# EAGLE library part TRF7970A (library MDB_HOME)
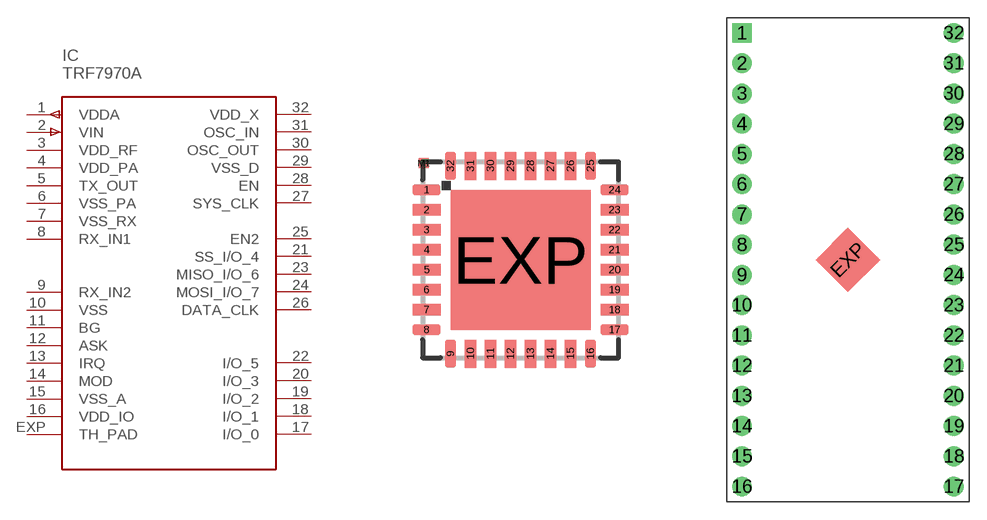
[diagram p50: symbol with the pads of HVQFN32; footprints HVQFN32, ADAPTER_QFN_QFP32]

Designator prefix IC

## TRF7970A_IC  [HVQFN32]
1  VDDA  out
2  VIN  sup
3  VDD_RF  out
4  VDD_PA  in
5  TX_OUT  out
6  VSS_PA  sup
7  VSS_RX  sup
8  RX_IN1  in
9  RX_IN2  in
10  VSS
11  BG  out
12  ASK
13  IRQ  out
14  MOD
15  VSS_A  sup
16  VDD_IO  in
17  I/O_0
18  I/O_1
19  I/O_2
20  I/O_3
21  SS_I/O_4
22  I/O_5
23  MISO_I/O_6
24  MOSI_I/O_7
25  EN2  in
26  DATA_CLK  in
27  SYS_CLK  out
28  EN  in
29  VSS_D  sup
30  OSC_OUT  out
31  OSC_IN
32  VDD_X  out
EXP  TH_PAD  sup

## TRF7970A__SQ1  [ADAPTER_QFN_QFP32]
Pads as for HVQFN32

## TRF7970A  [ADAPTER_QFN/P32_SQUARE]
Pads as for HVQFN32

## Footprint HVQFN32 (pad centres in mm)
HVQFN32 (SOT617-3) 5 x 5 x .85 mm, Pitch 0.5mm Source: http://www.semiconductors.philips.com/acrobat_download/datasheets/TDA9885_TDA9886_2.pdf
smd 0.7 x 0.28: 1 -2.35,1.75; 2 -2.35,1.25; 3 -2.35,0.75; 4 -2.35,0.25; 5 -2.35,-0.25; 6 -2.35,-0.75; 7 -2.35,-1.25; 8 -2.35,-1.75; 17 2.35,-1.75; 18 2.35,-1.25; 19 2.35,-0.75; 20 2.35,-0.25; 21 2.35,0.25; 22 2.35,0.75; 23 2.35,1.25; 24 2.35,1.75
smd 0.28 x 0.7: 9 -1.75,-2.35; 10 -1.25,-2.35; 11 -0.75,-2.35; 12 -0.25,-2.35; 13 0.25,-2.35; 14 0.75,-2.35; 15 1.25,-2.35; 16 1.75,-2.35; 25 1.75,2.35; 26 1.25,2.35; 27 0.75,2.35; 28 0.25,2.35; 29 -0.25,2.35; 30 -0.75,2.35; 31 -1.25,2.35; 32 -1.75,2.35
smd 3.5 x 3.5: EXP 0,0
smd 0.25 x 0.25: M1 -2.415,2.415

## Footprint ADAPTER_QFN_QFP32 (pad centres in mm)
drill 0.9 pad 1.676 square: 1 -8.89,19.05
drill 0.9 pad 1.676: 2 -8.89,16.51; 3 -8.89,13.97; 4 -8.89,11.43; 5 -8.89,8.89; 6 -8.89,6.35; 7 -8.89,3.81; 8 -8.89,1.27; 9 -8.89,-1.27; 10 -8.89,-3.81; 11 -8.89,-6.35; 12 -8.89,-8.89; 13 -8.89,-11.43; 14 -8.89,-13.97; 15 -8.89,-16.51; 16 -8.89,-19.05; 17 8.89,-19.05; 18 8.89,-16.51; 19 8.89,-13.97; 20 8.89,-11.43; 21 8.89,-8.89; 22 8.89,-6.35; 23 8.89,-3.81; 24 8.89,-1.27; 25 8.89,1.27; 26 8.89,3.81; 27 8.89,6.35; 28 8.89,8.89; 29 8.89,11.43; 30 8.89,13.97; 31 8.89,16.51; 32 8.89,19.05
smd 3.81 x 3.81 rotated 45: EXP 0,0

## Footprint ADAPTER_QFN/P32_SQUARE (pad centres in mm)
drill 0.9 pad 1.676 square: 1 -11.43,8.89
drill 0.9 pad 1.676 octagon: 2 -11.43,6.35; 3 -11.43,3.81; 4 -11.43,1.27; 5 -11.43,-1.27; 6 -11.43,-3.81; 7 -11.43,-6.35; 8 -11.43,-8.89; 9 -8.89,-11.43; 10 -6.35,-11.43; 11 -3.81,-11.43; 12 -1.27,-11.43; 13 1.27,-11.43; 14 3.81,-11.43; 15 6.35,-11.43; 16 8.89,-11.43; 17 11.43,-8.89; 18 11.43,-6.35; 19 11.43,-3.81; 20 11.43,-1.27; 21 11.43,1.27; 22 11.43,3.81; 23 11.43,6.35; 24 11.43,8.89; 25 8.89,11.43; 26 6.35,11.43; 27 3.81,11.43; 28 1.27,11.43; 29 -1.27,11.43; 30 -3.81,11.43; 31 -6.35,11.43; 32 -8.89,11.43
smd 11.5 x 11.5 bottom: EXP 0,0